# Altium footprint library STM3205_SpecialLib.PcbLib: 1 footprints
Each footprint in its own frame and in the unit in brackets; x right, y up, seen from the top. Pads: shape width x height; smd on the part's side, far side on the other; paste and mask are expansions set on the pad; w line width, h text height; cw(c..) or ccw(c..) is an arc to the next point about the centre after c.
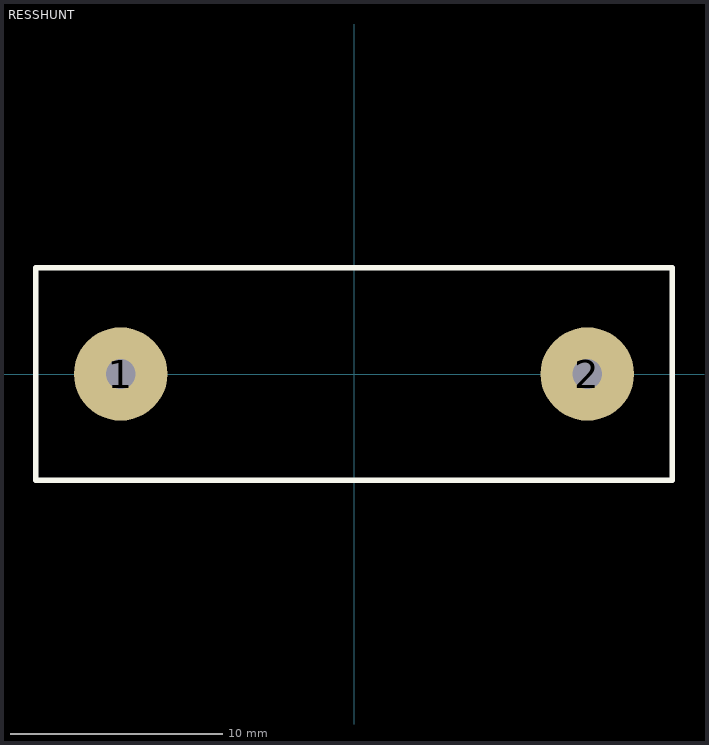
[diagram p0: the footprint, top view; thin cyan lines are the x and y axes]

## RESSHUNT [mm]
height 30
pads (2):
  round 4.4 hole 1.4: 1(-11,0) 2(11,0)
Top Overlay:
  lines w0.254: -15,-5 15,-5 15,5 -15,5 -15,-5
3D body "ResistorCoil.STEP": height 29.35, standoff -3, extent -11.6,-5.099 11.6,5.099